# EAGLE library part ZD24C512A (library _mtvl.memory)
I2C-Compatible (2-wire) Serial EEPROM 512K-bit (65536×8) DATASHEET
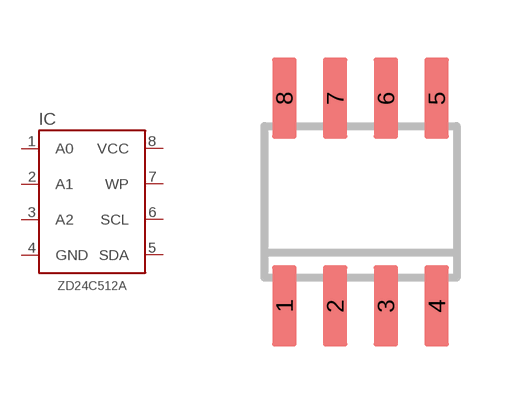
[diagram p5: symbol with the pads of SOP8; footprint SOP8]

Designator prefix IC

## ZD24C512A-SS  [SOP8]
1  A0  in
2  A1  in
3  A2  in
4  GND  sup
5  SDA
6  SCL  in
7  WP  in
8  VCC  sup

## Footprint SOP8 (pad centres in mm)
SMALL OUTLINE INTEGRATED CIRCUIT
smd 0.61 x 2.032: 1 -1.905,-2.6; 2 -0.635,-2.6; 3 0.635,-2.6; 4 1.905,-2.6; 5 1.905,2.6; 6 0.635,2.6; 7 -0.635,2.6; 8 -1.905,2.6